# EAGLE library part LCD-A3X1C50TR (library magic)
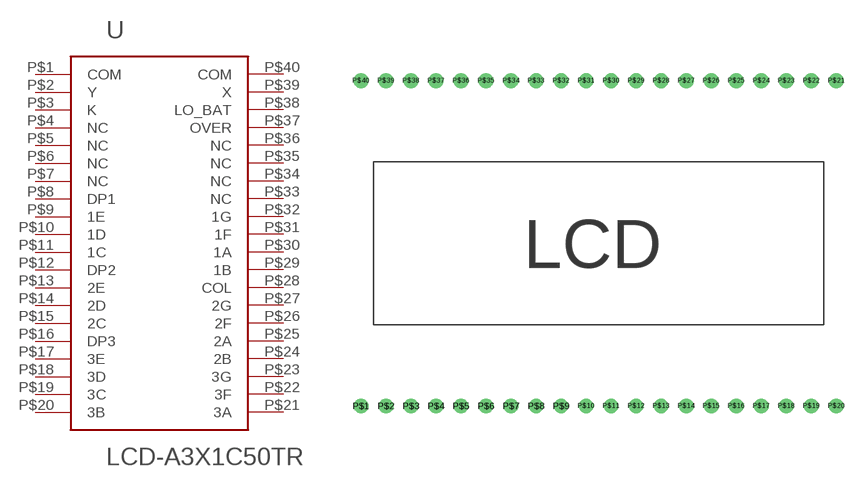
[diagram p0: symbol with the pads of LCD-A3X1C50TR; footprint LCD-A3X1C50TR]

Designator prefix -

## LCD-A3X1C50TR  [LCD-A3X1C50TR]
P$1  COM
P$2  Y
P$3  K
P$4  NC
P$5  NC
P$6  NC
P$7  NC
P$8  DP1
P$9  1E
P$10  1D
P$11  1C
P$12  DP2
P$13  2E
P$14  2D
P$15  2C
P$16  DP3
P$17  3E
P$18  3D
P$19  3C
P$20  3B
P$21  3A
P$22  3F
P$23  3G
P$24  2B
P$25  2A
P$26  2F
P$27  2G
P$28  COL
P$29  1B
P$30  1A
P$31  1F
P$32  1G
P$33  NC
P$34  NC
P$35  NC
P$36  NC
P$37  OVER
P$38  LO_BAT
P$39  X
P$40  COM

## Footprint LCD-A3X1C50TR (pad centres in mm)
drill 0.5 pad 1.5: P$1 -24.13,-16.5; P$2 -21.59,-16.5; P$3 -19.05,-16.5; P$4 -16.51,-16.5; P$5 -13.97,-16.5; P$6 -11.43,-16.5; P$7 -8.89,-16.5; P$8 -6.35,-16.5; P$9 -3.81,-16.5; P$10 -1.27,-16.5; P$11 1.27,-16.5; P$12 3.81,-16.5; P$13 6.35,-16.5; P$14 8.89,-16.5; P$15 11.43,-16.5; P$16 13.97,-16.5; P$17 16.51,-16.5; P$18 19.05,-16.5; P$19 21.59,-16.5; P$20 24.13,-16.5; P$21 24.13,16.5; P$22 21.59,16.5; P$23 19.05,16.5; P$24 16.51,16.5; P$25 13.97,16.5; P$26 11.43,16.5; P$27 8.89,16.5; P$28 6.35,16.5; P$29 3.81,16.5; P$30 1.27,16.5; P$31 -1.27,16.5; P$32 -3.81,16.5; P$33 -6.35,16.5; P$34 -8.89,16.5; P$35 -11.43,16.5; P$36 -13.97,16.5; P$37 -16.51,16.5; P$38 -19.05,16.5; P$39 -21.59,16.5; P$40 -24.13,16.5